# Altium footprint library WSN1.PcbLib: 45 footprints (part 1 of 3)
Each footprint in its own frame and in the unit in brackets; x right, y up, seen from the top. Pads: shape width x height; smd on the part's side, far side on the other; paste and mask are expansions set on the pad; w line width, h text height; cw(c..) or ccw(c..) is an arc to the next point about the centre after c.
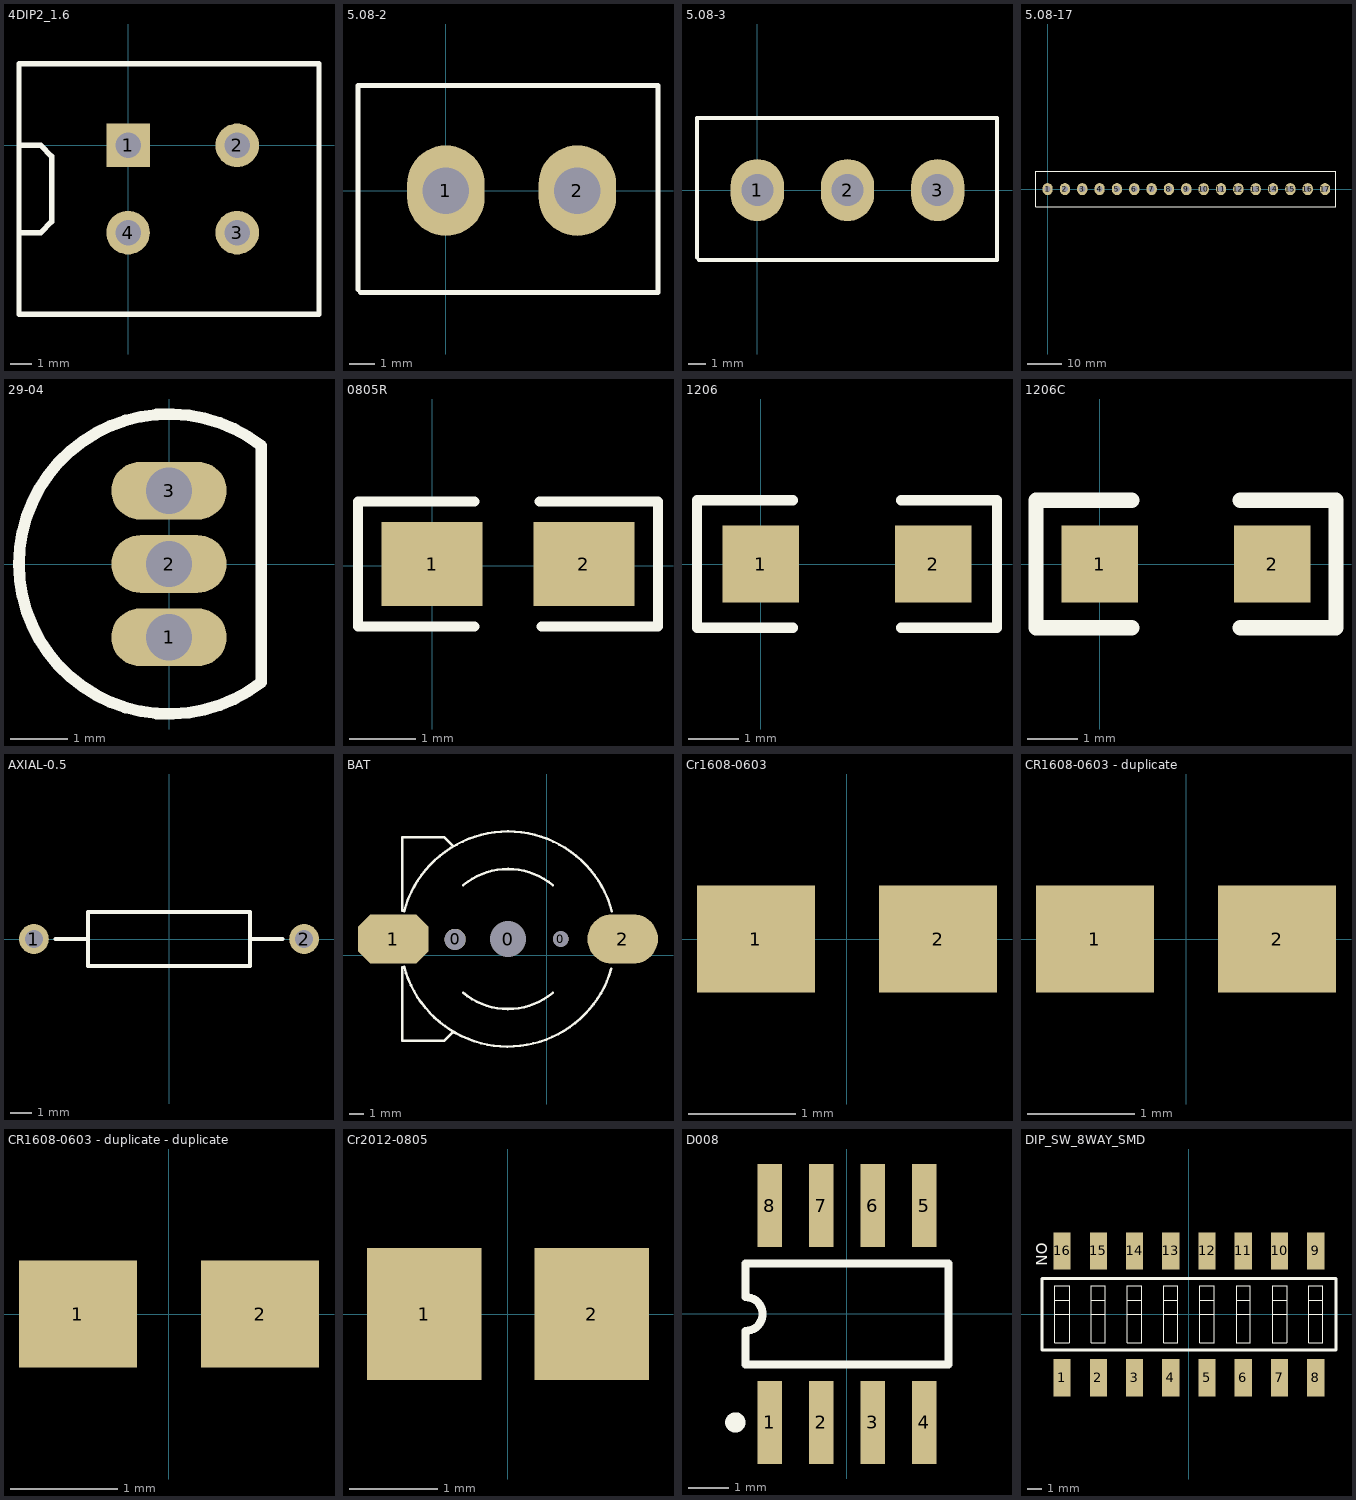
[diagram p0: the footprints below, top view; thin cyan lines are the x and y axes]

## 4DIP2_1.6 [mil]
pads (4):
  rect 80x80 hole 47: 1(0,0)
  round 80 hole 47: 2(200,0) 3(200,-160) 4(0,-160)
Top Overlay:
  lines w10: -200,-160 -160,-160 -140,-140 -140,-20 -160,0 -200,0 ; -200,-310 -200,150 350,150 350,-310 -200,-310

## 5.08-2 [mm]
pads (2):
  oval 3x3.5 hole 1.8: 1(0,0) 2(5.08,0)
Top Overlay:
  lines w0.203: -3.4,-3.81 -3.4,4.064 8.2,4.064 8.2,-3.937 -3.3,-3.937

## 5.08-3 [mm]
pads (3):
  oval 3x3.5 hole 1.8: 1(0,0) 2(5.08,0) 3(10.16,0)
Top Overlay:
  lines w0.203: -3.4,-3.81 -3.4,4.064 13.5,4.064 13.5,-3.937 -3.3,-3.937

## 5.08-17 [mm]
pads (17):
  oval 3x3.5 hole 1.8: 1(0,0) 2(5.08,0) 3(10.16,0) 4(15.24,0) 5(20.32,0) 6(25.4,0) 7(30.48,0) 8(35.56,0) 9(40.64,0) 10(45.72,0) 11(50.8,0) 12(55.88,0) 13(60.96,0) 14(66.04,0) 15(71.12,0) 16(76.2,0) 17(81.28,0)
Top Overlay:
  lines w0.203: -3.4,-5.2 -3.4,5.3 84.5,5.3 84.5,-5.2 -3.4,-5.2

## 29-04 [mm] "TO, Flat Index; 3 In-Line, Axial Leads; Body Dia. 4.8mm; Leads 0.48 x 0.5 mm (max)"
height 5.33
pads (3):
  oval 2x1 hole 0.8: 1(0,-1.27) 2(0,0) 3(0,1.27)
Top Overlay:
  lines w0.2: 1.601,-2.049 cw(c0,0) 1.601,2.049 ; 1.6,-1.99 1.6,1.99

## 0805R [mil]
pads (2):
  rect 60x50 smd: 1(0,1) 2(90,1)
Top Overlay:
  lines w6: -44,38 -44,-36 25,-36 ; -43.31,38 25,38 ; 63.78,38 134,38 134,-36 64.96,-36

## 1206 [mil]
pads (2):
  rect 60x60 smd: 1(0,0) 2(135,0)
Top Overlay:
  lines w8: 25,-50 -50,-50 -50,50 25,50 ; 110,-50 185,-50 185,50 110,50

## 1206C [mil]
pads (2):
  rect 60x60 smd: 1(0,0) 2(135,0)
Top Overlay:
  lines w12: 25,-50 -50,-50 -50,50 25,50 ; 110,-50 185,-50 185,50 110,50
3D body: height 40.05, standoff 0.6, extent 6.01,-33.49 132,29.5

## AXIAL-0.5 [mm] "Semiconductor Resistor; 2 Leads"
pads (2):
  round 1.4 hole 0.85: 1(-6.35,0) 2(6.35,0)
Top Overlay:
  lines w0.2: -5.334,0 -3.81,0 ; 3.81,0 5.334,0 ; -3.81,-1.27 3.81,-1.27 3.81,1.27 -3.81,1.27 -3.81,-1.27

## BAT [mm]
height 1.1
pads (5):
  round 1.5 hole 1.5: 0(-6.495,1.12)
  round 2.032 hole 2.54: 0(-2.745,1.145)
  round 1.1 hole 1.1: 0(1.005,1.145)
  oct 5x3.5 smd: 1(-10.873,1.145)
  oval 5x3.5 smd: 2(5.383,1.145)
Top Overlay:
  lines w0.178: -10.245,-0.855 -10.245,-6.055 -7.245,-6.055 -6.67,-5.48 ; -10.245,3.145 -10.245,8.345 -7.245,8.345 -6.645,7.745 ; -10.107,-0.818 ccw(c-2.745,1.145) 4.582,-0.948 ; -10.107,3.109 cw(c-2.745,1.145) -2.745,8.765 cw(c-2.745,1.145) 4.618,3.109 ; -5.92,-2.665 ccw(c-2.745,1.145) 0.428,-2.667 ; -5.914,4.96 cw(c-2.745,1.145) 0.428,4.958

## Cr1608-0603 [mm] "Chip Resistor; Body 1.6 x 0.8 mm (LxW typ)"
height 2.1
pads (2):
  rect 1.1x1 smd: 1(-0.85,0) 2(0.85,0)

## CR1608-0603 - duplicate [mm]
pads (2):
  rect 1.1x1 smd: 1(-0.85,0) 2(0.85,0)

## CR1608-0603 - duplicate - duplicate [mm]
pads (2):
  rect 1.1x1 smd: 1(-0.85,0) 2(0.85,0)

## Cr2012-0805 [mm] "Chip Resistor; Body 2.0 x 1.3 mm (LxW typ)"
height 1.1
pads (2):
  rect 1.3x1.5 smd: 1(-0.95,0) 2(0.95,0)

## D008 [mm] "Small Outline; 8 Leads; Body Width 3.9 mm; Pitch 1.27 mm"
height 1.75
pads (8):
  rect 0.6x2.05 smd: 1(-1.905,-2.675) 2(-0.635,-2.675) 3(0.635,-2.675) 4(1.905,-2.675) 5(1.905,2.675) 6(0.635,2.675) 7(-0.635,2.675) 8(-1.905,2.675)
Top Overlay:
  circle w0.25: c-2.755,-2.675 r0.125
  lines w0.2: -2.5,-1.25 -2.5,-0.417 ccw(c-2.5,0) -2.5,0.417 -2.5,1.25 2.5,1.25 2.5,-1.25 -2.5,-1.25

## DIP_SW_8WAY_SMD [mm] "DIP Switch; 16 Leads"
pads (16):
  rect 1.2x2.6 smd: 1(-8.89,-4.45) 2(-6.35,-4.45) 3(-3.81,-4.45) 4(-1.27,-4.45) 5(1.27,-4.45) 6(3.81,-4.45) 7(6.35,-4.45) 8(8.89,-4.45) 9(8.89,4.45) 10(6.35,4.45) 11(3.81,4.45) 12(1.27,4.45) 13(-1.27,4.45) 14(-3.81,4.45) 15(-6.35,4.45) 16(-8.89,4.45)
Top Overlay:
  lines w0.025: -9.39,0 -8.39,0 ; -9.39,1 -8.39,1 ; -6.85,0 -5.85,0 ; -6.85,1 -5.85,1 ; -4.31,0 -3.31,0 ; -4.31,1 -3.31,1 ; -1.77,0 -0.77,0 ; -1.77,1 -0.77,1 ; 0.77,0 1.77,0 ; 0.77,1 1.77,1 ; 3.31,0 4.31,0 ; 3.31,1 4.31,1 ; 5.85,0 6.85,0 ; 5.85,1 6.85,1 ; 8.39,0 9.39,0 ; 8.39,1 9.39,1 ; -9.39,-2 -9.39,2 -8.39,2 -8.39,-2 -9.39,-2 ; -6.85,-2 -6.85,2 -5.85,2 -5.85,-2 -6.85,-2 ; -4.31,-2 -4.31,2 -3.31,2 -3.31,-2 -4.31,-2 ; -1.77,-2 -1.77,2 -0.77,2 -0.77,-2 -1.77,-2 ; 0.77,-2 0.77,2 1.77,2 1.77,-2 0.77,-2 ; 3.31,-2 3.31,2 4.31,2 4.31,-2 3.31,-2 ; 5.85,-2 5.85,2 6.85,2 6.85,-2 5.85,-2 ; 8.39,-2 8.39,2 9.39,2 9.39,-2 8.39,-2
  lines w0.2: -10.29,-2.5 -10.29,2.5 10.31,2.5 10.31,-2.5 -10.29,-2.5
  text "ON" at -10.719,5.029 h0.76